# Altium schematic symbol library CONMMCX001-SMD.SCHLIB: 1 symbol
Pins are listed as number, name and electrical type; pins without a type are passive.

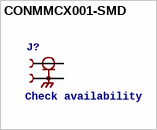
[diagram p0: symbol CONMMCX001-SMD]

## CONMMCX001-SMD
designator J?, comment Check availability
GateName_1: G$1; SymbolName_1: CONMMCX001-SMD; MF: Linx; LibraryName: CONMMCX001-SMD; DeviceSetName: CONMMCX001-SMD; Availability: In Stock; Price: None; Purchase-URL: https://pricing.snapeda.com/search/part/CONMMCX001-SMD/?ref=eda; Package: None; MP: CONMMCX001-SMD
footprint LINX_CONMMCX001-SMD
pins: 1, 2